# EAGLE library part NS73M_PCB (library ns73m)
NS73M breakout board (from Sparkfun)
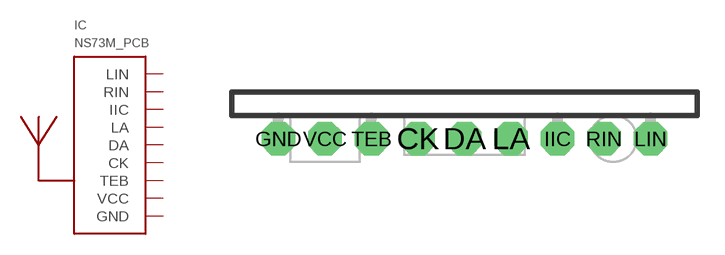
[diagram p0: symbol with the pads of NS73M_PCB; footprint NS73M_PCB]

Designator prefix IC

## NS73M_PCB  [NS73M_PCB]
CK  CK
DA  DA
GND  GND
IIC  IIC
LA  LA
LIN  LIN
RIN  RIN
TEB  TEB
VCC  VCC

## Footprint NS73M_PCB (pad centres in mm)
drill 1 pad 1.85 octagon: CK -2.54,0; DA 0,0; GND -10.16,0; IIC 5.08,0; LA 2.54,0; LIN 10.16,0; RIN 7.62,0; TEB -5.08,0; VCC -7.62,0